# Altium schematic symbol library Tubes.SchLib: 6 symbols
Pins are listed as number, name and electrical type; pins without a type are passive.

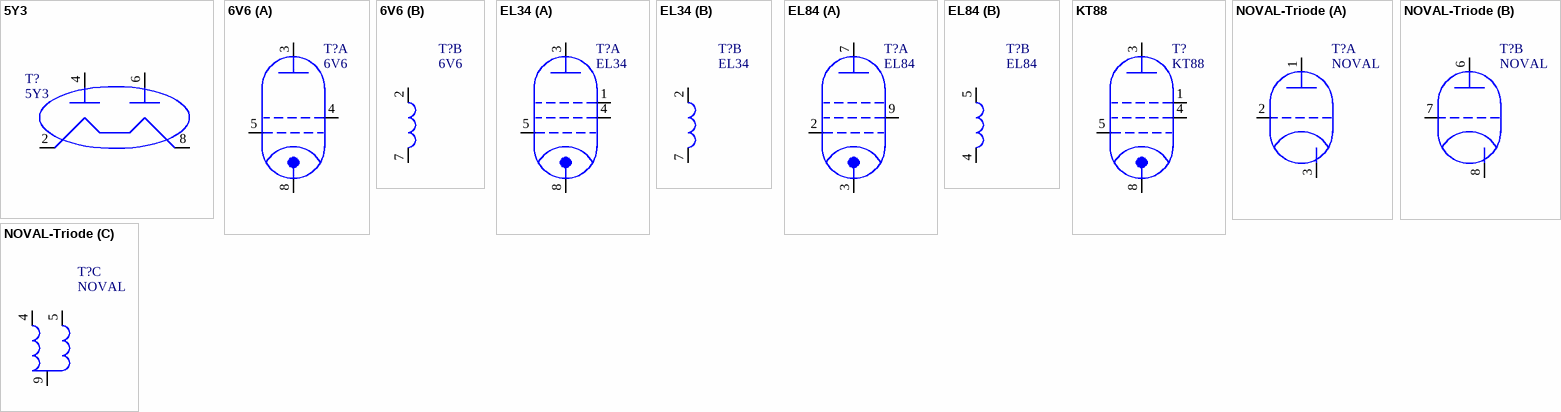
[diagram p0: symbols 5Y3 to NOVAL-Triode]

## 5Y3
designator T?
footprint 5Y3
pins: 2, 4, 6, 8

## 6V6
designator T?
footprint 6V6
part A pins: 3, 4, 5, 8
part B pins: 2, 7

## EL34
designator T?
footprint EL34 (Footprint not found)
part A pins: 1, 3, 4, 5, 8
part B pins: 2, 7

## EL84
designator T?
footprint EL84
part A pins: 2, 3, 7, 9
part B pins: 4, 5

## KT88
designator T?
footprint KT88 (Footprint not found)
pins: 1, 3, 4, 5, 8

## NOVAL-Triode
designator T?, comment NOVAL
footprint 12AX7 (Footprint not found)
part A pins: 1, 2, 3
part B pins: 6, 7, 8
part C pins: 4, 5, 9